# Altium schematic symbol library fuse_thermistor.SchLib: 1 symbol
Pins are listed as number, name and electrical type; pins without a type are passive.

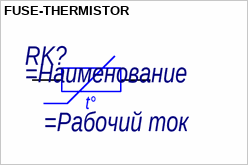
[diagram p0: symbol FUSE-THERMISTOR]

## FUSE-THERMISTOR
designator RK?
=Описание
pins: 1, 2
text: t°